# EAGLE library part ETRX1 (library 1_USER)
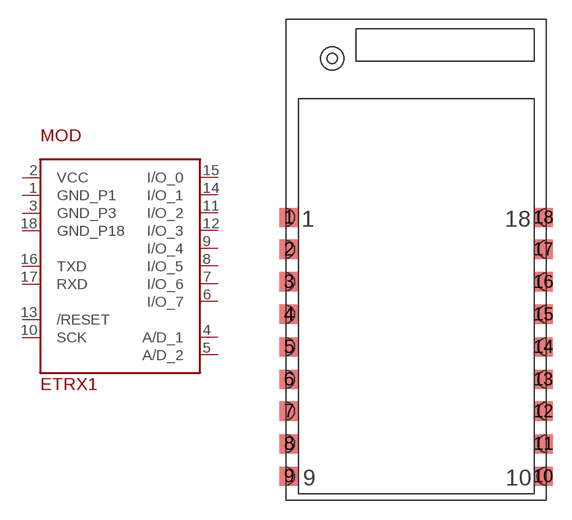
[diagram p5: symbol with the pads of ETRX1; footprint ETRX1]

Designator prefix MOD

## ETRX1  [ETRX1]
1  GND_P1  pwr
2  VCC  pwr
3  GND_P3  pwr
4  A/D_1
5  A/D_2
6  I/O_7
7  I/O_6
8  I/O_5
9  I/O_4
10  SCK
11  I/O_2
12  I/O_3
13  /RESET  in
14  I/O_1
15  I/O_0
16  TXD  out
17  RXD  in
18  GND_P18  pwr

## Footprint ETRX1 (pad centres in mm)
smd 1.5 x 1.5: 1 0.25,22.2; 2 0.25,19.7; 3 0.25,17.15; 4 0.25,14.6; 5 0.25,12.05; 6 0.25,9.5; 7 0.25,7; 8 0.25,4.45; 9 0.25,1.9; 10 20.2,1.9; 11 20.2,4.45; 12 20.2,7; 13 20.2,9.5; 14 20.2,12.05; 15 20.2,14.6; 16 20.2,17.15; 17 20.2,19.7; 18 20.2,22.2